# Altium footprint library PCB_library.PcbLib: 36 footprints (part 3 of 3)
Each footprint in its own frame and in the unit in brackets; x right, y up, seen from the top. Pads: shape width x height; smd on the part's side, far side on the other; paste and mask are expansions set on the pad; w line width, h text height; cw(c..) or ccw(c..) is an arc to the next point about the centre after c.
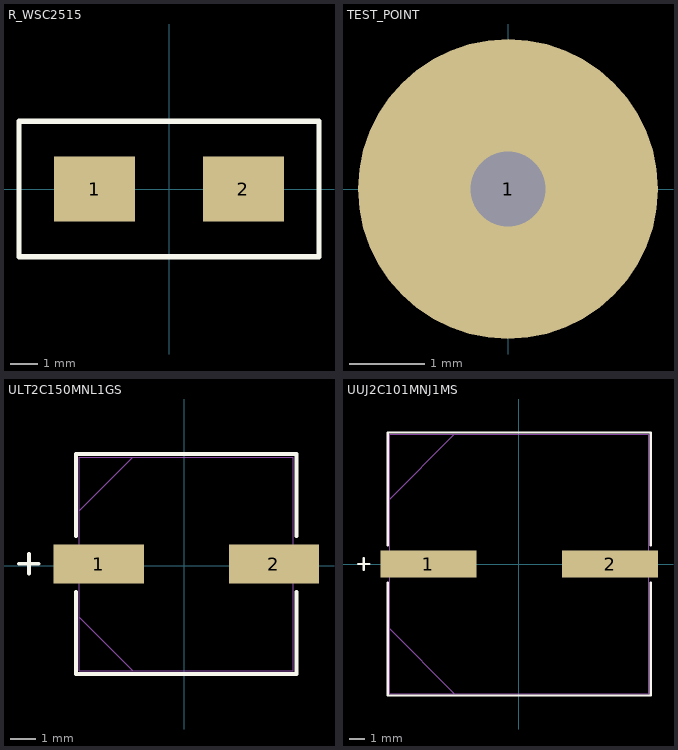
[diagram p2: the footprints below, top view; thin cyan lines are the x and y axes]

## R_WSC2515 [mm]
pads (2):
  rect 3x2.4 smd: 1(-2.75,0) 2(2.75,0)
Top Overlay:
  lines w0.2: -5.55,-2.5 -5.55,0 -5.55,2.5 5.55,2.5 5.55,-2.5 -5.55,-2.5

## TEST_POINT [mm]
pads (1):
  round 4 hole 1: 1(0,0)

## ULT2C150MNL1GS [mil]
pads (2):
  rect 138x59 smd paste+0 mask+0: 1(-130.77,2.44) 2(137.23,2.44)
Top Overlay:
  lines w6: -252.56,2.87 -222.56,2.87 ; -237.56,-12.13 -237.56,17.87 ; -165.27,-40.16 -165.27,-166.06 171.73,-166.06 171.73,-40.16 ; -165.27,45.04 -165.27,170.94 171.73,170.94 171.73,45.04
Mechanical 13:
  lines w1: -252.56,2.87 -222.56,2.87 ; -237.56,-12.13 -237.56,17.87 ; -160.27,-79.31 -78.52,-161.06 ; -160.27,84.19 -78.52,165.94 ; -160.27,-161.06 -160.27,165.94 166.73,165.94 166.73,-161.06 -160.27,-161.06
3D body "CAP_ULH_8X10_NCH.step": height 435.12, standoff 0, extent -181.1,-161.65 184.88,165.35

## UUJ2C101MNJ1MS [mil]
pads (2):
  rect 252x71 smd paste+0 mask+0: 1(-237.83,0) 2(239.17,0)
Top Overlay:
  lines w6: -422.83,0 -392.83,0 ; -407.83,-15 -407.83,15 ; -344.83,-48.6 -344.83,-345.5 346.17,-345.5 346.17,-48.6 ; -344.83,48.6 -344.83,345.5 346.17,345.5 346.17,48.6
Mechanical 13:
  lines w1: -422.83,0 -392.83,0 ; -407.83,-15 -407.83,15 ; -339.83,-170.25 -169.58,-340.5 ; -339.83,170.25 -169.58,340.5 ; -339.83,-340.5 -339.83,340.5 341.17,340.5 341.17,-340.5 -339.83,-340.5
3D body "PCAP_16x21_5-ELECT_NCA.step": height 888.11, standoff 0, extent -343.82,-340.51 345.16,340.51